# Altium integrated library Power15V0_0.3A_TrLess.IntLib: 14 symbols
Pins are listed as number, name and electrical type; pins without a type are passive.

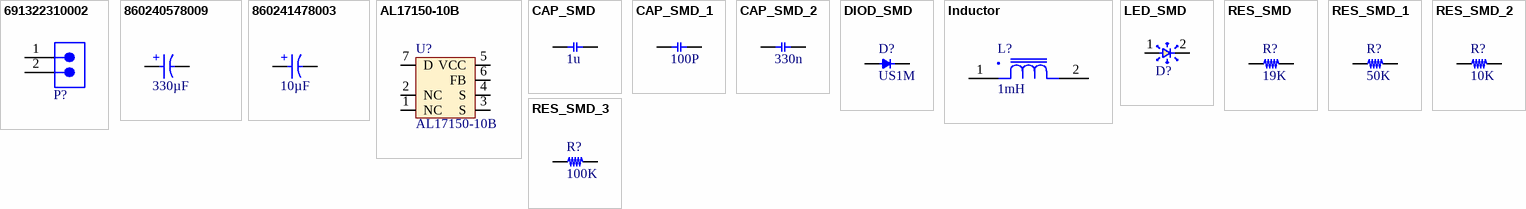
[diagram p0: symbols 691322310002 to RES_SMD_3]

## 691322310002
designator P?  (value not drawn)
WR-TBL Series 322 Horizontal PCB Header, Through Hole, pitch 3.81mm, 2p; Manufacturer: Wurth Elektronik; Pin Number: 2; Rated Current: 10A; Working Voltage: 300V; Modularity: No; ComponentLink1Description: Manufacturer Link; ComponentLink1URL: https://www.we-online.com/redexpert/article/691322310002?ad; ComponentLink2Description: Datasheet; ComponentLink2URL: https://www.we-online.com/redexpert/spec/691322310002?ad; Category: Terminal Blocks; Match Code: WR-TBL; Manufacturer Part Number: 691322310002; Mount: Through Hole; Operating Temperature Max: 105°C; Operating Temperature Min: -40°C; Packaging: Box; Pitch: 3.81mm; Orientation: Horizontal; Application: Pluggable; PCB/Cable/Panel: PCB
footprint 691322310002
pins: 1, 2

## 860240578009
designator C?, comment 330µF
WCAP-AT1H Aluminum Electrolytic Capacitor, Radial, THT, D13 x H20mm, 330µF, 35V; Manufacturer Part Number: 860240578009; Manufacturer: Wurth Elektronik; Capacitance Tolerance: +/-20%; Dissipation Factor: 12%; Endurance: 10000h; Leakage Current: 115.5µA; Ripple Current: 1035mA; Technical Reference: ATDI200331M035DSPACK000; Category: Aluminum Electrolytic Capacitors; Match Code: WCAP-AT1H; ComponentLink1Description: Website Link; ComponentLink1URL: https://www.we-online.com/redexpert/article/860240578009?ad; ComponentLink2Description: Datasheet Link; ComponentLink2URL: https://www.we-online.com/redexpert/spec/860240578009?ad; Mount: Through Hole; Operating Temperature Max: 105°C; Operating Temperature Min: -40°C; Packaging: Ammo Pack; Height: 20mm; Diameter: 13mm; Capacitance: 330µF; Rated Voltage (DC): 35V
footprint WCAP-AT1H_D13H20
simulation model 860240578009_330uF
pins: 1 P, 2 N
text: +

## 860241478003
designator C?, comment 10µF
WCAP-AT1H Aluminum Electrolytic Capacitor, Radial, THT, D13 x H20mm, 10µF, 450V; Manufacturer Part Number: 860241478003; Manufacturer: Wurth Elektronik; Capacitance Tolerance: +/-20%; Dissipation Factor: 20%; Endurance: 10000h; Leakage Current: 280µA; Ripple Current: 390mA; Technical Reference: ATJI200100M450DSPACK000; Category: Aluminum Electrolytic Capacitors; Match Code: WCAP-AT1H; ComponentLink1Description: Website Link; ComponentLink1URL: https://www.we-online.com/redexpert/article/860241478003?ad; ComponentLink2Description: Datasheet Link; ComponentLink2URL: https://www.we-online.com/redexpert/spec/860241478003?ad; Mount: Through Hole; Operating Temperature Max: 105°C; Operating Temperature Min: -25°C; Packaging: Ammo Pack; Height: 20mm; Diameter: 13mm; Capacitance: 10µF; Rated Voltage (DC): 450V
footprint WCAP-AT1H_D13H20
simulation model 860241478003_10uF
pins: 1 P, 2 N
text: +

## AL17150-10B
designator U?
footprint SOIC-7 (U?)
pins: 1 NC, 2 NC, 3 S, 4 S, 5 VCC, 6 FB, 7 D

## CAP_SMD
designator C?, comment 1u
CAP_SMD
footprint C 0402 (C?)
footprint C 0603 (C?)
footprint C 0612 (C?)
footprint C 0805 (C?)
footprint C 1210 (C?)
footprint C 1808 (C?)
footprint C 2220 (C?)
footprint C 0508 (C?)
footprint C 0201 (C?)
footprint C 1218 (C?)
footprint C 2512 (C?)
footprint C 1812 (C?)
footprint C 2010 (C?)
footprint C 1206 (C?)
pins: 1, 2

## CAP_SMD_1
designator C?, comment 100P
CAP_SMD
footprint C 0402 (C?)
footprint C 0603 (C?)
footprint C 0612 (C?)
footprint C 0805 (C?)
footprint C 1210 (C?)
footprint C 1808 (C?)
footprint C 2220 (C?)
footprint C 0508 (C?)
footprint C 0201 (C?)
footprint C 1218 (C?)
footprint C 2512 (C?)
footprint C 1812 (C?)
footprint C 2010 (C?)
footprint C 1206 (C?)
pins: 1, 2

## CAP_SMD_2
designator C?, comment 330n
CAP_SMD
footprint C 0402 (C?)
footprint C 0603 (C?)
footprint C 0612 (C?)
footprint C 0805 (C?)
footprint C 1210 (C?)
footprint C 1808 (C?)
footprint C 2220 (C?)
footprint C 0508 (C?)
footprint C 0201 (C?)
footprint C 1218 (C?)
footprint C 2512 (C?)
footprint C 1812 (C?)
footprint C 2010 (C?)
footprint C 1206 (C?)
pins: 1, 2

## DIOD_SMD
designator D?, comment US1M
DIOD_SMD
footprint DIOD_SMA (D?)
footprint DIOD_SMB (D?)
footprint DIOD_SMC (D?)
footprint D 0201 (D?)
footprint D 0402 (D?)
footprint D 0508 (D?)
footprint D 0805 (D?)
footprint D 1206 (D?)
footprint D 1210 (D?)
footprint D 1218 (D?)
footprint D 1808 (D?)
footprint D 1812 (D?)
footprint D 2010 (D?)
footprint D 2220 (D?)
footprint D 2512 (D?)
footprint D 0603 (D?)
footprint D 0612 (D?)
footprint MiniMELF (D?)
footprint D SOD-523 (D?)
footprint D SOD-323 (D?)
pins: 1, 2

## Inductor
designator L?, comment 1mH
Inductor
footprint L_12*12_SMD (L?)
footprint L_5mm_DIP-2 (L?)
footprint L_3mm_DIP-2 (L?)
footprint L 0201 (L?)
footprint L 0402 (L?)
footprint L 0508 (L?)
footprint L 0805 (L?)
footprint L 0603 (L?)
footprint L 0612 (L?)
footprint L 1210 (L?)
footprint L 1218 (L?)
footprint L 1808 (L?)
footprint L 1812 (L?)
footprint L 2010 (L?)
footprint C 2220 (C?)
footprint L 2512 (L?)
footprint L 1206 (L?)
pins: 1, 2

## LED_SMD
designator D?  (value not drawn)
footprint D 0201 (D?)
footprint D 0402 (D?)
footprint D 0508 (D?)
footprint D 0603 (D?)
footprint D 0612 (D?)
footprint D 0805 (D?)
footprint D 1206 (D?)
footprint D 1210 (D?)
footprint D 1218 (D?)
footprint D 1808 (D?)
footprint D 1812 (D?)
footprint D 2010 (D?)
footprint D 2220 (D?)
footprint D 2512 (D?)
pins: 1, 2

## RES_SMD
designator R?, comment 19K
RES_SMD
footprint R 0201 (R?)
footprint R 0402 (R?)
footprint R 0603 (R?)
footprint R 0805 (R?)
footprint R 1218 (R?)
footprint R 2010 (R?)
footprint R 2512 (R?)
footprint R 0508 (R?)
footprint R 0612 (R?)
footprint R 1210 (R?)
footprint R 1808 (R?)
footprint R 1812 (R?)
footprint R 2220 (R?)
footprint R 1206 (R?)
pins: 1, 2

## RES_SMD_1
designator R?, comment 50K
RES_SMD
footprint R 0201 (R?)
footprint R 0402 (R?)
footprint R 0603 (R?)
footprint R 0805 (R?)
footprint R 1218 (R?)
footprint R 2010 (R?)
footprint R 2512 (R?)
footprint R 0508 (R?)
footprint R 0612 (R?)
footprint R 1210 (R?)
footprint R 1808 (R?)
footprint R 1812 (R?)
footprint R 2220 (R?)
footprint R 1206 (R?)
pins: 1, 2

## RES_SMD_2
designator R?, comment 10K
RES_SMD
footprint R 0201 (R?)
footprint R 0402 (R?)
footprint R 0603 (R?)
footprint R 0805 (R?)
footprint R 1218 (R?)
footprint R 2010 (R?)
footprint R 2512 (R?)
footprint R 0508 (R?)
footprint R 0612 (R?)
footprint R 1210 (R?)
footprint R 1808 (R?)
footprint R 1812 (R?)
footprint R 2220 (R?)
footprint R 1206 (R?)
pins: 1, 2

## RES_SMD_3
designator R?, comment 100K
RES_SMD
footprint R 0201 (R?)
footprint R 0402 (R?)
footprint R 0603 (R?)
footprint R 0805 (R?)
footprint R 1218 (R?)
footprint R 2010 (R?)
footprint R 2512 (R?)
footprint R 0508 (R?)
footprint R 0612 (R?)
footprint R 1210 (R?)
footprint R 1808 (R?)
footprint R 1812 (R?)
footprint R 2220 (R?)
footprint R 1206 (R?)
pins: 1, 2